# Altium footprint library OS102011MA1QN1.PcbLib: 1 footprints
Each footprint in its own frame and in the unit in brackets; x right, y up, seen from the top. Pads: shape width x height; smd on the part's side, far side on the other; paste and mask are expansions set on the pad; w line width, h text height; cw(c..) or ccw(c..) is an arc to the next point about the centre after c.
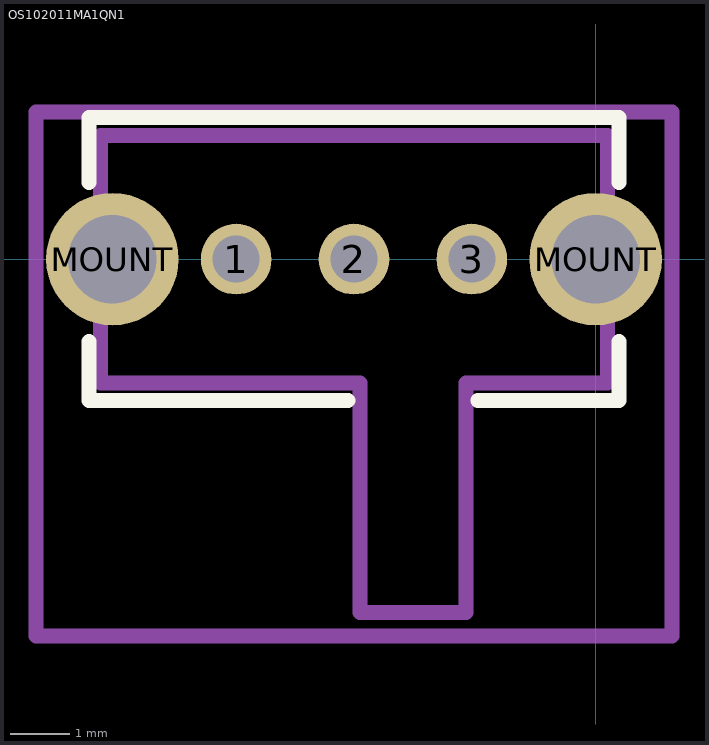
[diagram p0: the footprint, top view; thin cyan lines are the x and y axes]

## OS102011MA1QN1 [mm]
pads (5):
  round 1.2 hole 0.8 mask+0.05: 1(-6.1,0) 2(-4.1,0) 3(-2.1,0)
  round 2.25 hole 1.5 mask+0.05: MOUNT(-8.2,0) MOUNT(0,0)
Top Overlay:
  lines w0.254: -8.6,-1.4 -8.6,-2.4 -4.2,-2.4 ; -8.6,1.3 -8.6,2.4 0.4,2.4 0.4,1.3 ; -2,-2.4 0.4,-2.4 0.4,-1.4
Top Assembly:
  lines w0.254: -8.4,-2.1 -4,-2.1 -4,-6 -2.2,-6 -2.2,-2.1 0.2,-2.1 0.2,2.1 -8.4,2.1 -8.4,-2.1
Top Courtyard:
  lines w0.254: -9.5,-6.4 1.3,-6.4 1.3,2.5 -9.5,2.5 -9.5,0 -9.5,-6.4
3D body "OS102011MA1QN1.stp": height 4.9, standoff -2.7, extent -8.4,-6.2 0.2,2.2